# Altium integrated library WD Communication UART.IntLib: 33 symbols
Pins are listed as number, name and electrical type; pins without a type are passive.

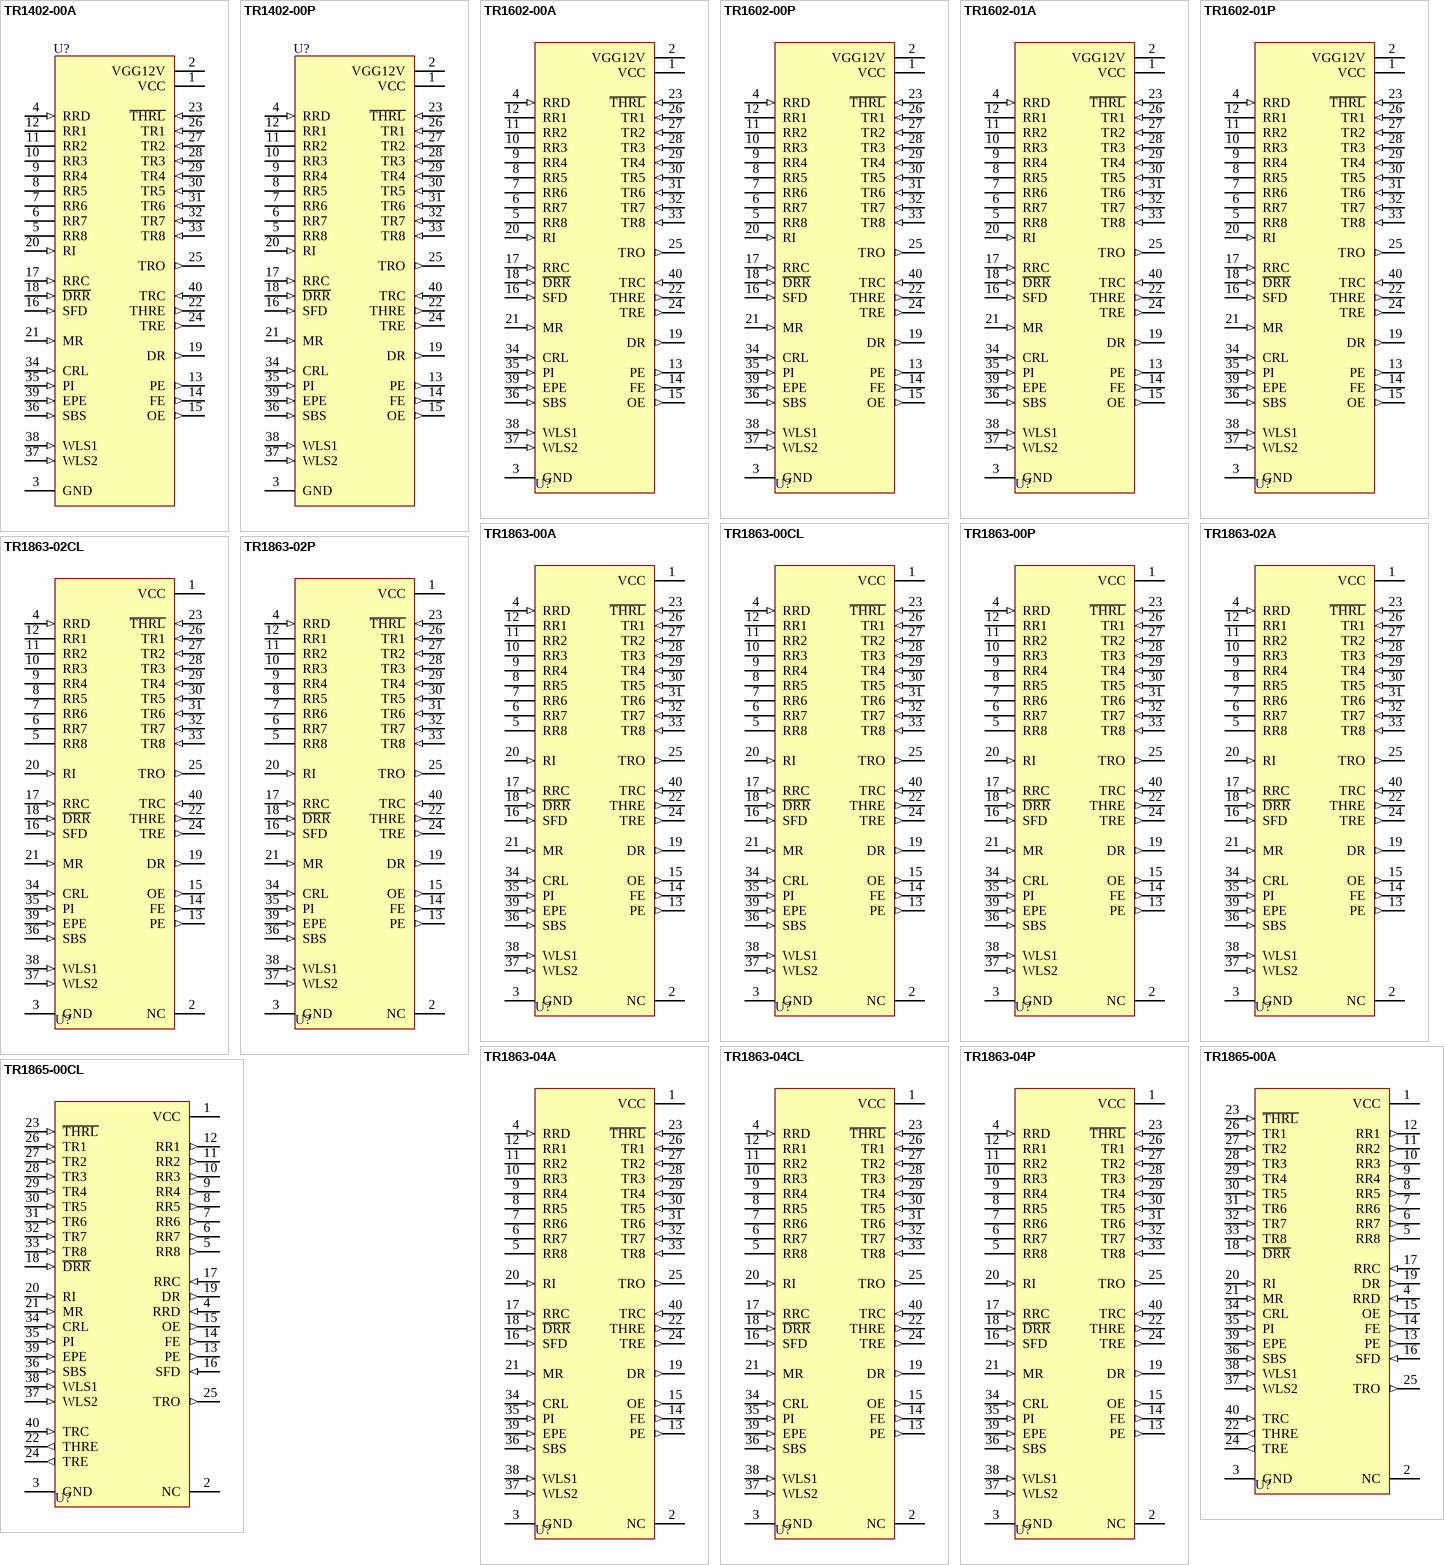
[diagram p0: symbols TR1402-00A to TR1865-00CL]

## TR1402-00A
designator U?
Universal Asynchronous Receiver/Transmitter; PackageDocument: 1984; Published: 8-Jun-2000; LatestRevisionDate: 4-Mar-2005; LatestRevisionNote: Stylized 3D Model Added.; DatasheetDocument: 1984; PackageReference: A40; Publisher: Altium Limited; ComponentLink1Description: Manufacturer Link; ComponentLink1URL: http://www.wdc.com/
footprint A40 (DIP; 40 Leads; Row Spacing 15.24 mm; Pitch 2.54 mm)
3D model A40 (DIP; 40 Leads; Row Spacing 15.24 mm; Pitch 2.54 mm)
pins: 1 VCC (power), 2 VGG12V (power), 3 GND (power), 4 RRD (in), 5 RR8 (hiz), 6 RR7 (hiz), 7 RR6 (hiz), 8 RR5 (hiz), 9 RR4 (hiz), 10 RR3 (hiz), 11 RR2 (hiz), 12 RR1 (hiz), 13 PE (out), 14 FE (out), 15 OE (out), 16 SFD (in), 17 RRC (in), 18 ~{DRR} (in), 19 DR (out), 20 RI (in), 21 MR (in), 22 THRE (out), 23 ~{THRL} (in), 24 TRE (out), 25 TRO (out), 26 TR1 (in), 27 TR2 (in), 28 TR3 (in), 29 TR4 (in), 30 TR5 (in), 31 TR6 (in), 32 TR7 (in), 33 TR8 (in), 34 CRL (in), 35 PI (in), 36 SBS (in), 37 WLS2 (in), 38 WLS1 (in), 39 EPE (in), 40 TRC (in)

## TR1402-00P
designator U?
Universal Asynchronous Receiver/Transmitter; PackageDocument: 1984; Published: 8-Jun-2000; LatestRevisionDate: 4-Mar-2005; LatestRevisionNote: Stylized 3D Model Added.; DatasheetDocument: 1984; PackageReference: P40; Publisher: Altium Limited; ComponentLink1Description: Manufacturer Link; ComponentLink1URL: http://www.wdc.com/
footprint P40 (DIP; 40 Leads; Row Spacing 15.24 mm; Pitch 2.54 mm)
3D model P40 (DIP; 40 Leads; Row Spacing 15.24 mm; Pitch 2.54 mm)
pins: 1 VCC (power), 2 VGG12V (power), 3 GND (power), 4 RRD (in), 5 RR8 (hiz), 6 RR7 (hiz), 7 RR6 (hiz), 8 RR5 (hiz), 9 RR4 (hiz), 10 RR3 (hiz), 11 RR2 (hiz), 12 RR1 (hiz), 13 PE (out), 14 FE (out), 15 OE (out), 16 SFD (in), 17 RRC (in), 18 ~{DRR} (in), 19 DR (out), 20 RI (in), 21 MR (in), 22 THRE (out), 23 ~{THRL} (in), 24 TRE (out), 25 TRO (out), 26 TR1 (in), 27 TR2 (in), 28 TR3 (in), 29 TR4 (in), 30 TR5 (in), 31 TR6 (in), 32 TR7 (in), 33 TR8 (in), 34 CRL (in), 35 PI (in), 36 SBS (in), 37 WLS2 (in), 38 WLS1 (in), 39 EPE (in), 40 TRC (in)

## TR1602-00A
designator U?
Universal Asynchronous Receiver/Transmitter; PackageDocument: 1984; Published: 8-Jun-2000; LatestRevisionDate: 4-Mar-2005; LatestRevisionNote: Stylized 3D Model Added.; DatasheetDocument: 1984; PackageReference: A40; Publisher: Altium Limited; ComponentLink1Description: Manufacturer Link; ComponentLink1URL: http://www.wdc.com/
footprint A40 (DIP; 40 Leads; Row Spacing 15.24 mm; Pitch 2.54 mm)
3D model A40 (DIP; 40 Leads; Row Spacing 15.24 mm; Pitch 2.54 mm)
pins: 1 VCC (power), 2 VGG12V (power), 3 GND (power), 4 RRD (in), 5 RR8 (hiz), 6 RR7 (hiz), 7 RR6 (hiz), 8 RR5 (hiz), 9 RR4 (hiz), 10 RR3 (hiz), 11 RR2 (hiz), 12 RR1 (hiz), 13 PE (out), 14 FE (out), 15 OE (out), 16 SFD (in), 17 RRC (in), 18 ~{DRR} (in), 19 DR (out), 20 RI (in), 21 MR (in), 22 THRE (out), 23 ~{THRL} (in), 24 TRE (out), 25 TRO (out), 26 TR1 (in), 27 TR2 (in), 28 TR3 (in), 29 TR4 (in), 30 TR5 (in), 31 TR6 (in), 32 TR7 (in), 33 TR8 (in), 34 CRL (in), 35 PI (in), 36 SBS (in), 37 WLS2 (in), 38 WLS1 (in), 39 EPE (in), 40 TRC (in)

## TR1602-00P
designator U?
Universal Asynchronous Receiver/Transmitter; PackageDocument: 1984; Published: 8-Jun-2000; LatestRevisionDate: 4-Mar-2005; LatestRevisionNote: Stylized 3D Model Added.; DatasheetDocument: 1984; PackageReference: P40; Publisher: Altium Limited; ComponentLink1Description: Manufacturer Link; ComponentLink1URL: http://www.wdc.com/
footprint P40 (DIP; 40 Leads; Row Spacing 15.24 mm; Pitch 2.54 mm)
3D model P40 (DIP; 40 Leads; Row Spacing 15.24 mm; Pitch 2.54 mm)
pins: 1 VCC (power), 2 VGG12V (power), 3 GND (power), 4 RRD (in), 5 RR8 (hiz), 6 RR7 (hiz), 7 RR6 (hiz), 8 RR5 (hiz), 9 RR4 (hiz), 10 RR3 (hiz), 11 RR2 (hiz), 12 RR1 (hiz), 13 PE (out), 14 FE (out), 15 OE (out), 16 SFD (in), 17 RRC (in), 18 ~{DRR} (in), 19 DR (out), 20 RI (in), 21 MR (in), 22 THRE (out), 23 ~{THRL} (in), 24 TRE (out), 25 TRO (out), 26 TR1 (in), 27 TR2 (in), 28 TR3 (in), 29 TR4 (in), 30 TR5 (in), 31 TR6 (in), 32 TR7 (in), 33 TR8 (in), 34 CRL (in), 35 PI (in), 36 SBS (in), 37 WLS2 (in), 38 WLS1 (in), 39 EPE (in), 40 TRC (in)

## TR1602-01A
designator U?
Universal Asynchronous Receiver/Transmitter; PackageDocument: 1984; Published: 8-Jun-2000; LatestRevisionDate: 4-Mar-2005; LatestRevisionNote: Stylized 3D Model Added.; DatasheetDocument: 1984; PackageReference: A40; Publisher: Altium Limited; ComponentLink1Description: Manufacturer Link; ComponentLink1URL: http://www.wdc.com/
footprint A40 (DIP; 40 Leads; Row Spacing 15.24 mm; Pitch 2.54 mm)
3D model A40 (DIP; 40 Leads; Row Spacing 15.24 mm; Pitch 2.54 mm)
pins: 1 VCC (power), 2 VGG12V (power), 3 GND (power), 4 RRD (in), 5 RR8 (hiz), 6 RR7 (hiz), 7 RR6 (hiz), 8 RR5 (hiz), 9 RR4 (hiz), 10 RR3 (hiz), 11 RR2 (hiz), 12 RR1 (hiz), 13 PE (out), 14 FE (out), 15 OE (out), 16 SFD (in), 17 RRC (in), 18 ~{DRR} (in), 19 DR (out), 20 RI (in), 21 MR (in), 22 THRE (out), 23 ~{THRL} (in), 24 TRE (out), 25 TRO (out), 26 TR1 (in), 27 TR2 (in), 28 TR3 (in), 29 TR4 (in), 30 TR5 (in), 31 TR6 (in), 32 TR7 (in), 33 TR8 (in), 34 CRL (in), 35 PI (in), 36 SBS (in), 37 WLS2 (in), 38 WLS1 (in), 39 EPE (in), 40 TRC (in)

## TR1602-01P
designator U?
Universal Asynchronous Receiver/Transmitter; PackageDocument: 1984; Published: 8-Jun-2000; LatestRevisionDate: 4-Mar-2005; LatestRevisionNote: Stylized 3D Model Added.; DatasheetDocument: 1984; PackageReference: P40; Publisher: Altium Limited; ComponentLink1Description: Manufacturer Link; ComponentLink1URL: http://www.wdc.com/
footprint P40 (DIP; 40 Leads; Row Spacing 15.24 mm; Pitch 2.54 mm)
3D model P40 (DIP; 40 Leads; Row Spacing 15.24 mm; Pitch 2.54 mm)
pins: 1 VCC (power), 2 VGG12V (power), 3 GND (power), 4 RRD (in), 5 RR8 (hiz), 6 RR7 (hiz), 7 RR6 (hiz), 8 RR5 (hiz), 9 RR4 (hiz), 10 RR3 (hiz), 11 RR2 (hiz), 12 RR1 (hiz), 13 PE (out), 14 FE (out), 15 OE (out), 16 SFD (in), 17 RRC (in), 18 ~{DRR} (in), 19 DR (out), 20 RI (in), 21 MR (in), 22 THRE (out), 23 ~{THRL} (in), 24 TRE (out), 25 TRO (out), 26 TR1 (in), 27 TR2 (in), 28 TR3 (in), 29 TR4 (in), 30 TR5 (in), 31 TR6 (in), 32 TR7 (in), 33 TR8 (in), 34 CRL (in), 35 PI (in), 36 SBS (in), 37 WLS2 (in), 38 WLS1 (in), 39 EPE (in), 40 TRC (in)

## TR1863-00A
designator U?
Universal Asynchronous Receiver/Transmitter; PackageDocument: 1984; Published: 8-Jun-2000; LatestRevisionDate: 4-Mar-2005; LatestRevisionNote: Stylized 3D Model Added.; DatasheetDocument: 1984; PackageReference: A40; Publisher: Altium Limited; ComponentLink1Description: Manufacturer Link; ComponentLink1URL: http://www.wdc.com/
footprint A40 (DIP; 40 Leads; Row Spacing 15.24 mm; Pitch 2.54 mm)
3D model A40 (DIP; 40 Leads; Row Spacing 15.24 mm; Pitch 2.54 mm)
pins: 1 VCC (power), 2 NC, 3 GND (power), 4 RRD (in), 5 RR8 (hiz), 6 RR7 (hiz), 7 RR6 (hiz), 8 RR5 (hiz), 9 RR4 (hiz), 10 RR3 (hiz), 11 RR2 (hiz), 12 RR1 (hiz), 13 PE (out), 14 FE (out), 15 OE (out), 16 SFD (in), 17 RRC (in), 18 ~{DRR} (in), 19 DR (out), 20 RI (in), 21 MR (in), 22 THRE (out), 23 ~{TH}~{RL} (in), 24 TRE (out), 25 TRO (out), 26 TR1 (in), 27 TR2 (in), 28 TR3 (in), 29 TR4 (in), 30 TR5 (in), 31 TR6 (in), 32 TR7 (in), 33 TR8 (in), 34 CRL (in), 35 PI (in), 36 SBS (in), 37 WLS2 (in), 38 WLS1 (in), 39 EPE (in), 40 TRC (in)

## TR1863-00CL
designator U?
Universal Asynchronous Receiver/Transmitter; PackageDocument: 1984; Published: 8-Jun-2000; LatestRevisionDate: 4-Mar-2005; LatestRevisionNote: Stylized 3D Model Added.; DatasheetDocument: 1984; PackageReference: CL40; Publisher: Altium Limited; ComponentLink1Description: Manufacturer Link; ComponentLink1URL: http://www.wdc.com/
footprint CL40 (DIP; 40 Leads; Row Spacing 15.24 mm; Pitch 2.54 mm)
3D model P40 (DIP; 40 Leads; Row Spacing 15.24 mm; Pitch 2.54 mm)
pins: 1 VCC (power), 2 NC, 3 GND (power), 4 RRD (in), 5 RR8 (hiz), 6 RR7 (hiz), 7 RR6 (hiz), 8 RR5 (hiz), 9 RR4 (hiz), 10 RR3 (hiz), 11 RR2 (hiz), 12 RR1 (hiz), 13 PE (out), 14 FE (out), 15 OE (out), 16 SFD (in), 17 RRC (in), 18 ~{DRR} (in), 19 DR (out), 20 RI (in), 21 MR (in), 22 THRE (out), 23 ~{TH}~{RL} (in), 24 TRE (out), 25 TRO (out), 26 TR1 (in), 27 TR2 (in), 28 TR3 (in), 29 TR4 (in), 30 TR5 (in), 31 TR6 (in), 32 TR7 (in), 33 TR8 (in), 34 CRL (in), 35 PI (in), 36 SBS (in), 37 WLS2 (in), 38 WLS1 (in), 39 EPE (in), 40 TRC (in)

## TR1863-00P
designator U?
Universal Asynchronous Receiver/Transmitter; PackageDocument: 1984; Published: 8-Jun-2000; LatestRevisionDate: 4-Mar-2005; LatestRevisionNote: Stylized 3D Model Added.; DatasheetDocument: 1984; PackageReference: P40; Publisher: Altium Limited; ComponentLink1Description: Manufacturer Link; ComponentLink1URL: http://www.wdc.com/
footprint P40 (DIP; 40 Leads; Row Spacing 15.24 mm; Pitch 2.54 mm)
3D model P40 (DIP; 40 Leads; Row Spacing 15.24 mm; Pitch 2.54 mm)
pins: 1 VCC (power), 2 NC, 3 GND (power), 4 RRD (in), 5 RR8 (hiz), 6 RR7 (hiz), 7 RR6 (hiz), 8 RR5 (hiz), 9 RR4 (hiz), 10 RR3 (hiz), 11 RR2 (hiz), 12 RR1 (hiz), 13 PE (out), 14 FE (out), 15 OE (out), 16 SFD (in), 17 RRC (in), 18 ~{DRR} (in), 19 DR (out), 20 RI (in), 21 MR (in), 22 THRE (out), 23 ~{TH}~{RL} (in), 24 TRE (out), 25 TRO (out), 26 TR1 (in), 27 TR2 (in), 28 TR3 (in), 29 TR4 (in), 30 TR5 (in), 31 TR6 (in), 32 TR7 (in), 33 TR8 (in), 34 CRL (in), 35 PI (in), 36 SBS (in), 37 WLS2 (in), 38 WLS1 (in), 39 EPE (in), 40 TRC (in)

## TR1863-02A
designator U?
Universal Asynchronous Receiver/Transmitter; PackageDocument: 1984; Published: 8-Jun-2000; LatestRevisionDate: 4-Mar-2005; LatestRevisionNote: Stylized 3D Model Added.; DatasheetDocument: 1984; PackageReference: A40; Publisher: Altium Limited; ComponentLink1Description: Manufacturer Link; ComponentLink1URL: http://www.wdc.com/
footprint A40 (DIP; 40 Leads; Row Spacing 15.24 mm; Pitch 2.54 mm)
3D model A40 (DIP; 40 Leads; Row Spacing 15.24 mm; Pitch 2.54 mm)
pins: 1 VCC (power), 2 NC, 3 GND (power), 4 RRD (in), 5 RR8 (hiz), 6 RR7 (hiz), 7 RR6 (hiz), 8 RR5 (hiz), 9 RR4 (hiz), 10 RR3 (hiz), 11 RR2 (hiz), 12 RR1 (hiz), 13 PE (out), 14 FE (out), 15 OE (out), 16 SFD (in), 17 RRC (in), 18 ~{DRR} (in), 19 DR (out), 20 RI (in), 21 MR (in), 22 THRE (out), 23 ~{TH}~{RL} (in), 24 TRE (out), 25 TRO (out), 26 TR1 (in), 27 TR2 (in), 28 TR3 (in), 29 TR4 (in), 30 TR5 (in), 31 TR6 (in), 32 TR7 (in), 33 TR8 (in), 34 CRL (in), 35 PI (in), 36 SBS (in), 37 WLS2 (in), 38 WLS1 (in), 39 EPE (in), 40 TRC (in)

## TR1863-02CL
designator U?
Universal Asynchronous Receiver/Transmitter; PackageDocument: 1984; Published: 8-Jun-2000; LatestRevisionDate: 4-Mar-2005; LatestRevisionNote: Stylized 3D Model Added.; DatasheetDocument: 1984; PackageReference: CL40; Publisher: Altium Limited; ComponentLink1Description: Manufacturer Link; ComponentLink1URL: http://www.wdc.com/
footprint CL40 (DIP; 40 Leads; Row Spacing 15.24 mm; Pitch 2.54 mm)
3D model P40 (DIP; 40 Leads; Row Spacing 15.24 mm; Pitch 2.54 mm)
pins: 1 VCC (power), 2 NC, 3 GND (power), 4 RRD (in), 5 RR8 (hiz), 6 RR7 (hiz), 7 RR6 (hiz), 8 RR5 (hiz), 9 RR4 (hiz), 10 RR3 (hiz), 11 RR2 (hiz), 12 RR1 (hiz), 13 PE (out), 14 FE (out), 15 OE (out), 16 SFD (in), 17 RRC (in), 18 ~{DRR} (in), 19 DR (out), 20 RI (in), 21 MR (in), 22 THRE (out), 23 ~{TH}~{RL} (in), 24 TRE (out), 25 TRO (out), 26 TR1 (in), 27 TR2 (in), 28 TR3 (in), 29 TR4 (in), 30 TR5 (in), 31 TR6 (in), 32 TR7 (in), 33 TR8 (in), 34 CRL (in), 35 PI (in), 36 SBS (in), 37 WLS2 (in), 38 WLS1 (in), 39 EPE (in), 40 TRC (in)

## TR1863-02P
designator U?
Universal Asynchronous Receiver/Transmitter; PackageDocument: 1984; Published: 8-Jun-2000; LatestRevisionDate: 4-Mar-2005; LatestRevisionNote: Stylized 3D Model Added.; DatasheetDocument: 1984; PackageReference: P40; Publisher: Altium Limited; ComponentLink1Description: Manufacturer Link; ComponentLink1URL: http://www.wdc.com/
footprint P40 (DIP; 40 Leads; Row Spacing 15.24 mm; Pitch 2.54 mm)
3D model P40 (DIP; 40 Leads; Row Spacing 15.24 mm; Pitch 2.54 mm)
pins: 1 VCC (power), 2 NC, 3 GND (power), 4 RRD (in), 5 RR8 (hiz), 6 RR7 (hiz), 7 RR6 (hiz), 8 RR5 (hiz), 9 RR4 (hiz), 10 RR3 (hiz), 11 RR2 (hiz), 12 RR1 (hiz), 13 PE (out), 14 FE (out), 15 OE (out), 16 SFD (in), 17 RRC (in), 18 ~{DRR} (in), 19 DR (out), 20 RI (in), 21 MR (in), 22 THRE (out), 23 ~{TH}~{RL} (in), 24 TRE (out), 25 TRO (out), 26 TR1 (in), 27 TR2 (in), 28 TR3 (in), 29 TR4 (in), 30 TR5 (in), 31 TR6 (in), 32 TR7 (in), 33 TR8 (in), 34 CRL (in), 35 PI (in), 36 SBS (in), 37 WLS2 (in), 38 WLS1 (in), 39 EPE (in), 40 TRC (in)

## TR1863-04A
designator U?
Universal Asynchronous Receiver/Transmitter; PackageDocument: 1984; Published: 8-Jun-2000; LatestRevisionDate: 4-Mar-2005; LatestRevisionNote: Stylized 3D Model Added.; DatasheetDocument: 1984; PackageReference: A40; Publisher: Altium Limited; ComponentLink1Description: Manufacturer Link; ComponentLink1URL: http://www.wdc.com/
footprint A40 (DIP; 40 Leads; Row Spacing 15.24 mm; Pitch 2.54 mm)
3D model A40 (DIP; 40 Leads; Row Spacing 15.24 mm; Pitch 2.54 mm)
pins: 1 VCC (power), 2 NC, 3 GND (power), 4 RRD (in), 5 RR8 (hiz), 6 RR7 (hiz), 7 RR6 (hiz), 8 RR5 (hiz), 9 RR4 (hiz), 10 RR3 (hiz), 11 RR2 (hiz), 12 RR1 (hiz), 13 PE (out), 14 FE (out), 15 OE (out), 16 SFD (in), 17 RRC (in), 18 ~{DRR} (in), 19 DR (out), 20 RI (in), 21 MR (in), 22 THRE (out), 23 ~{TH}~{RL} (in), 24 TRE (out), 25 TRO (out), 26 TR1 (in), 27 TR2 (in), 28 TR3 (in), 29 TR4 (in), 30 TR5 (in), 31 TR6 (in), 32 TR7 (in), 33 TR8 (in), 34 CRL (in), 35 PI (in), 36 SBS (in), 37 WLS2 (in), 38 WLS1 (in), 39 EPE (in), 40 TRC (in)

## TR1863-04CL
designator U?
Universal Asynchronous Receiver/Transmitter; PackageDocument: 1984; Published: 8-Jun-2000; LatestRevisionDate: 4-Mar-2005; LatestRevisionNote: Stylized 3D Model Added.; DatasheetDocument: 1984; PackageReference: CL40; Publisher: Altium Limited; ComponentLink1Description: Manufacturer Link; ComponentLink1URL: http://www.wdc.com/
footprint CL40 (DIP; 40 Leads; Row Spacing 15.24 mm; Pitch 2.54 mm)
3D model P40 (DIP; 40 Leads; Row Spacing 15.24 mm; Pitch 2.54 mm)
pins: 1 VCC (power), 2 NC, 3 GND (power), 4 RRD (in), 5 RR8 (hiz), 6 RR7 (hiz), 7 RR6 (hiz), 8 RR5 (hiz), 9 RR4 (hiz), 10 RR3 (hiz), 11 RR2 (hiz), 12 RR1 (hiz), 13 PE (out), 14 FE (out), 15 OE (out), 16 SFD (in), 17 RRC (in), 18 ~{DRR} (in), 19 DR (out), 20 RI (in), 21 MR (in), 22 THRE (out), 23 ~{TH}~{RL} (in), 24 TRE (out), 25 TRO (out), 26 TR1 (in), 27 TR2 (in), 28 TR3 (in), 29 TR4 (in), 30 TR5 (in), 31 TR6 (in), 32 TR7 (in), 33 TR8 (in), 34 CRL (in), 35 PI (in), 36 SBS (in), 37 WLS2 (in), 38 WLS1 (in), 39 EPE (in), 40 TRC (in)

## TR1863-04P
designator U?
Universal Asynchronous Receiver/Transmitter; PackageDocument: 1984; Published: 8-Jun-2000; LatestRevisionDate: 4-Mar-2005; LatestRevisionNote: Stylized 3D Model Added.; DatasheetDocument: 1984; PackageReference: P40; Publisher: Altium Limited; ComponentLink1Description: Manufacturer Link; ComponentLink1URL: http://www.wdc.com/
footprint P40 (DIP; 40 Leads; Row Spacing 15.24 mm; Pitch 2.54 mm)
3D model P40 (DIP; 40 Leads; Row Spacing 15.24 mm; Pitch 2.54 mm)
pins: 1 VCC (power), 2 NC, 3 GND (power), 4 RRD (in), 5 RR8 (hiz), 6 RR7 (hiz), 7 RR6 (hiz), 8 RR5 (hiz), 9 RR4 (hiz), 10 RR3 (hiz), 11 RR2 (hiz), 12 RR1 (hiz), 13 PE (out), 14 FE (out), 15 OE (out), 16 SFD (in), 17 RRC (in), 18 ~{DRR} (in), 19 DR (out), 20 RI (in), 21 MR (in), 22 THRE (out), 23 ~{TH}~{RL} (in), 24 TRE (out), 25 TRO (out), 26 TR1 (in), 27 TR2 (in), 28 TR3 (in), 29 TR4 (in), 30 TR5 (in), 31 TR6 (in), 32 TR7 (in), 33 TR8 (in), 34 CRL (in), 35 PI (in), 36 SBS (in), 37 WLS2 (in), 38 WLS1 (in), 39 EPE (in), 40 TRC (in)

## TR1865-00A
designator U?
Universal Asynchronous Receiver/Transmitter; PackageDocument: 1984; Published: 8-Jun-2000; LatestRevisionDate: 4-Mar-2005; LatestRevisionNote: Stylized 3D Model Added.; DatasheetDocument: 1984; PackageReference: A40; Publisher: Altium Limited; ComponentLink1Description: Manufacturer Link; ComponentLink1URL: http://www.wdc.com/
footprint A40 (DIP; 40 Leads; Row Spacing 15.24 mm; Pitch 2.54 mm)
3D model A40 (DIP; 40 Leads; Row Spacing 15.24 mm; Pitch 2.54 mm)
pins: 1 VCC (power), 2 NC, 3 GND (power), 4 RRD (in), 5 RR8 (out), 6 RR7 (out), 7 RR6 (out), 8 RR5 (out), 9 RR4 (out), 10 RR3 (out), 11 RR2 (out), 12 RR1 (out), 13 PE (out), 14 FE (out), 15 OE (out), 16 SFD (in), 17 RRC (in), 18 ~{DRR} (in), 19 DR (out), 20 RI (in), 21 MR (in), 22 THRE (out), 23 ~{THRL} (in), 24 TRE (out), 25 TRO (out), 26 TR1 (in), 27 TR2 (in), 28 TR3 (in), 29 TR4 (in), 30 TR5 (in), 31 TR6 (in), 32 TR7 (in), 33 TR8 (in), 34 CRL (in), 35 PI (in), 36 SBS (in), 37 WLS2 (in), 38 WLS1 (in), 39 EPE (in), 40 TRC (in)

## TR1865-00CL
designator U?
Universal Asynchronous Receiver/Transmitter; PackageDocument: 1984; Published: 8-Jun-2000; LatestRevisionDate: 4-Mar-2005; LatestRevisionNote: Stylized 3D Model Added.; DatasheetDocument: 1984; PackageReference: CL40; Publisher: Altium Limited; ComponentLink1Description: Manufacturer Link; ComponentLink1URL: http://www.wdc.com/
footprint CL40 (DIP; 40 Leads; Row Spacing 15.24 mm; Pitch 2.54 mm)
3D model P40 (DIP; 40 Leads; Row Spacing 15.24 mm; Pitch 2.54 mm)
pins: 1 VCC (power), 2 NC, 3 GND (power), 4 RRD (in), 5 RR8 (out), 6 RR7 (out), 7 RR6 (out), 8 RR5 (out), 9 RR4 (out), 10 RR3 (out), 11 RR2 (out), 12 RR1 (out), 13 PE (out), 14 FE (out), 15 OE (out), 16 SFD (in), 17 RRC (in), 18 ~{DRR} (in), 19 DR (out), 20 RI (in), 21 MR (in), 22 THRE (out), 23 ~{THRL} (in), 24 TRE (out), 25 TRO (out), 26 TR1 (in), 27 TR2 (in), 28 TR3 (in), 29 TR4 (in), 30 TR5 (in), 31 TR6 (in), 32 TR7 (in), 33 TR8 (in), 34 CRL (in), 35 PI (in), 36 SBS (in), 37 WLS2 (in), 38 WLS1 (in), 39 EPE (in), 40 TRC (in)

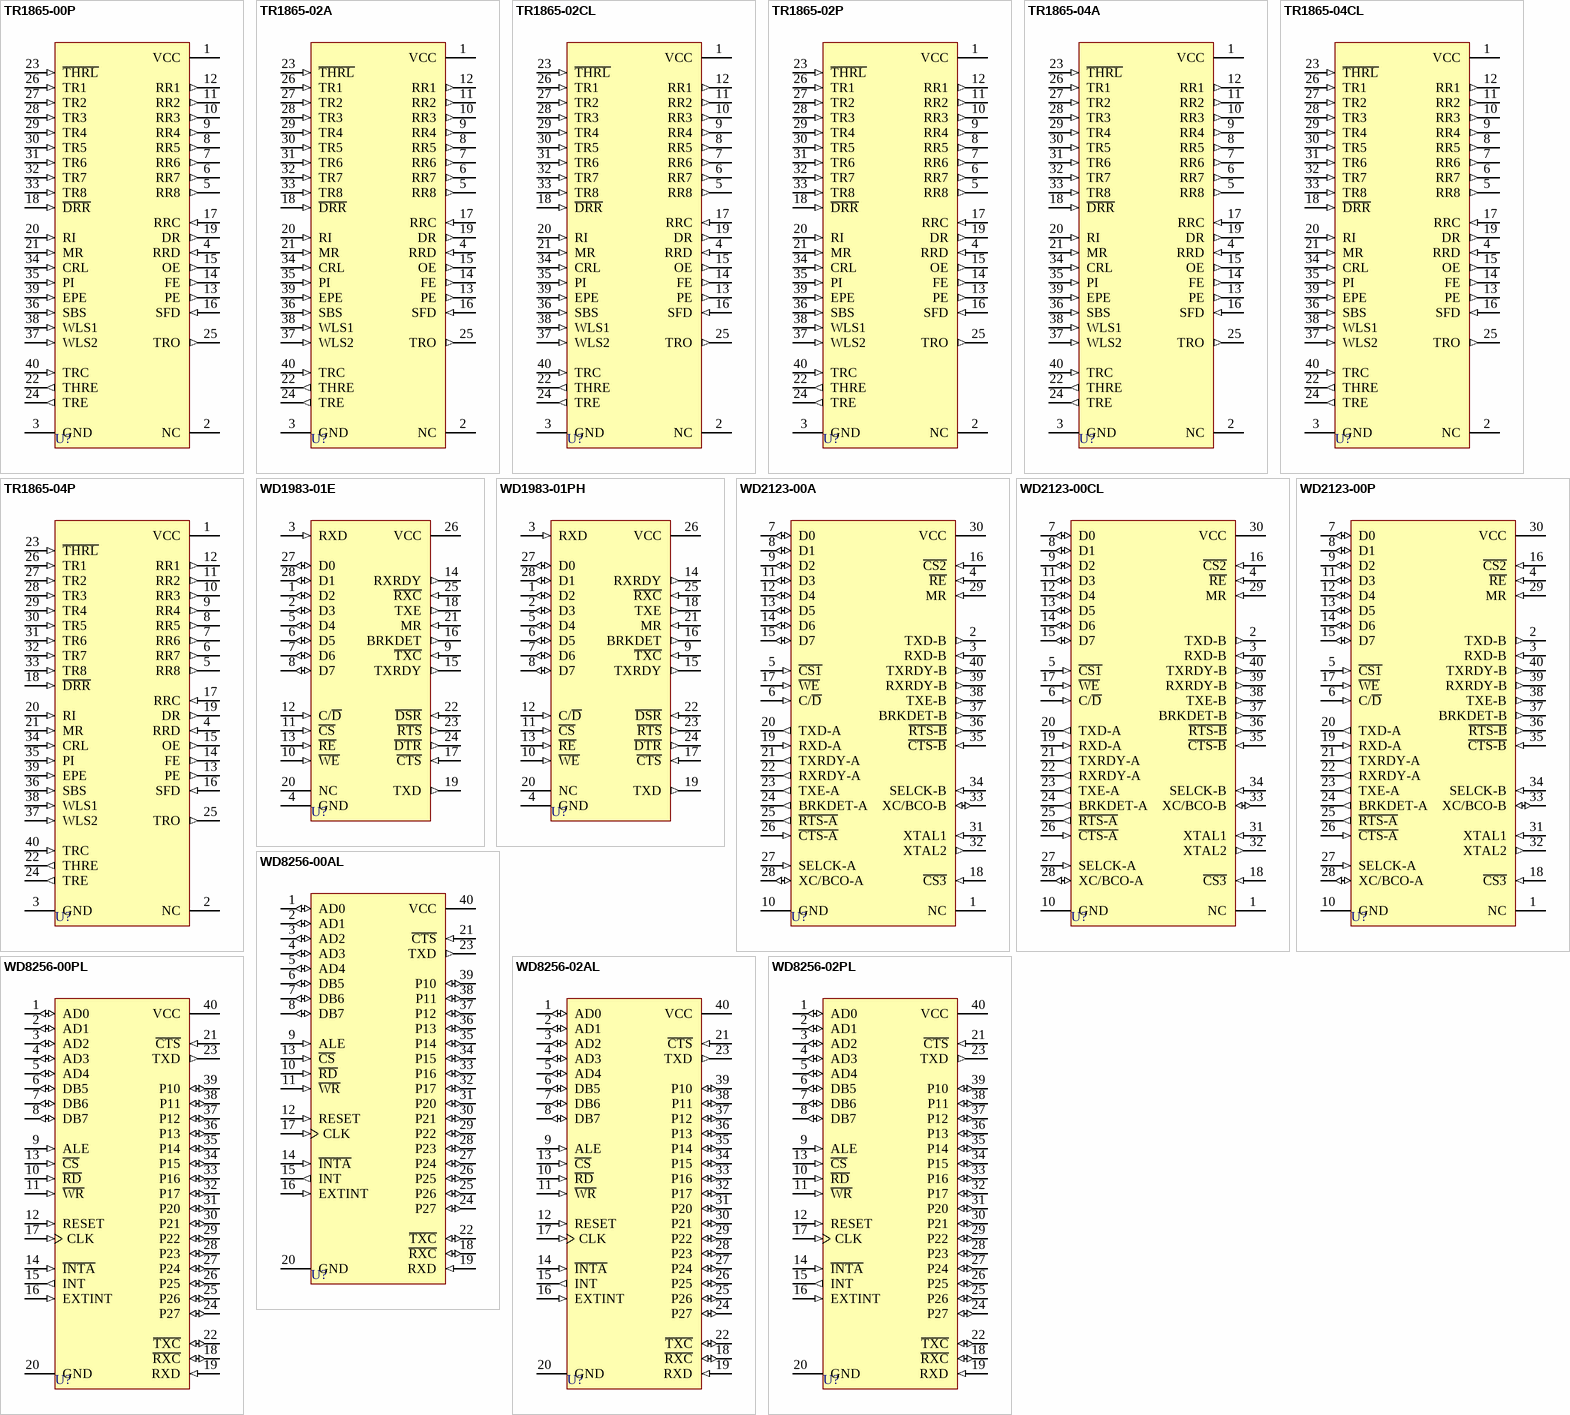
[diagram p1: symbols TR1865-00P to WD8256-02PL]

## TR1865-00P
designator U?
Universal Asynchronous Receiver/Transmitter; PackageDocument: 1984; Published: 8-Jun-2000; LatestRevisionDate: 4-Mar-2005; LatestRevisionNote: Stylized 3D Model Added.; DatasheetDocument: 1984; PackageReference: P40; Publisher: Altium Limited; ComponentLink1Description: Manufacturer Link; ComponentLink1URL: http://www.wdc.com/
footprint P40 (DIP; 40 Leads; Row Spacing 15.24 mm; Pitch 2.54 mm)
3D model P40 (DIP; 40 Leads; Row Spacing 15.24 mm; Pitch 2.54 mm)
pins: 1 VCC (power), 2 NC, 3 GND (power), 4 RRD (in), 5 RR8 (out), 6 RR7 (out), 7 RR6 (out), 8 RR5 (out), 9 RR4 (out), 10 RR3 (out), 11 RR2 (out), 12 RR1 (out), 13 PE (out), 14 FE (out), 15 OE (out), 16 SFD (in), 17 RRC (in), 18 ~{DRR} (in), 19 DR (out), 20 RI (in), 21 MR (in), 22 THRE (out), 23 ~{THRL} (in), 24 TRE (out), 25 TRO (out), 26 TR1 (in), 27 TR2 (in), 28 TR3 (in), 29 TR4 (in), 30 TR5 (in), 31 TR6 (in), 32 TR7 (in), 33 TR8 (in), 34 CRL (in), 35 PI (in), 36 SBS (in), 37 WLS2 (in), 38 WLS1 (in), 39 EPE (in), 40 TRC (in)

## TR1865-02A
designator U?
Universal Asynchronous Receiver/Transmitter; PackageDocument: 1984; Published: 8-Jun-2000; LatestRevisionDate: 4-Mar-2005; LatestRevisionNote: Stylized 3D Model Added.; DatasheetDocument: 1984; PackageReference: A40; Publisher: Altium Limited; ComponentLink1Description: Manufacturer Link; ComponentLink1URL: http://www.wdc.com/
footprint A40 (DIP; 40 Leads; Row Spacing 15.24 mm; Pitch 2.54 mm)
3D model A40 (DIP; 40 Leads; Row Spacing 15.24 mm; Pitch 2.54 mm)
pins: 1 VCC (power), 2 NC, 3 GND (power), 4 RRD (in), 5 RR8 (out), 6 RR7 (out), 7 RR6 (out), 8 RR5 (out), 9 RR4 (out), 10 RR3 (out), 11 RR2 (out), 12 RR1 (out), 13 PE (out), 14 FE (out), 15 OE (out), 16 SFD (in), 17 RRC (in), 18 ~{DRR} (in), 19 DR (out), 20 RI (in), 21 MR (in), 22 THRE (out), 23 ~{THRL} (in), 24 TRE (out), 25 TRO (out), 26 TR1 (in), 27 TR2 (in), 28 TR3 (in), 29 TR4 (in), 30 TR5 (in), 31 TR6 (in), 32 TR7 (in), 33 TR8 (in), 34 CRL (in), 35 PI (in), 36 SBS (in), 37 WLS2 (in), 38 WLS1 (in), 39 EPE (in), 40 TRC (in)

## TR1865-02CL
designator U?
Universal Asynchronous Receiver/Transmitter; PackageDocument: 1984; Published: 8-Jun-2000; LatestRevisionDate: 4-Mar-2005; LatestRevisionNote: Stylized 3D Model Added.; DatasheetDocument: 1984; PackageReference: CL40; Publisher: Altium Limited; ComponentLink1Description: Manufacturer Link; ComponentLink1URL: http://www.wdc.com/
footprint CL40 (DIP; 40 Leads; Row Spacing 15.24 mm; Pitch 2.54 mm)
3D model P40 (DIP; 40 Leads; Row Spacing 15.24 mm; Pitch 2.54 mm)
pins: 1 VCC (power), 2 NC, 3 GND (power), 4 RRD (in), 5 RR8 (out), 6 RR7 (out), 7 RR6 (out), 8 RR5 (out), 9 RR4 (out), 10 RR3 (out), 11 RR2 (out), 12 RR1 (out), 13 PE (out), 14 FE (out), 15 OE (out), 16 SFD (in), 17 RRC (in), 18 ~{DRR} (in), 19 DR (out), 20 RI (in), 21 MR (in), 22 THRE (out), 23 ~{THRL} (in), 24 TRE (out), 25 TRO (out), 26 TR1 (in), 27 TR2 (in), 28 TR3 (in), 29 TR4 (in), 30 TR5 (in), 31 TR6 (in), 32 TR7 (in), 33 TR8 (in), 34 CRL (in), 35 PI (in), 36 SBS (in), 37 WLS2 (in), 38 WLS1 (in), 39 EPE (in), 40 TRC (in)

## TR1865-02P
designator U?
Universal Asynchronous Receiver/Transmitter; PackageDocument: 1984; Published: 8-Jun-2000; LatestRevisionDate: 4-Mar-2005; LatestRevisionNote: Stylized 3D Model Added.; DatasheetDocument: 1984; PackageReference: P40; Publisher: Altium Limited; ComponentLink1Description: Manufacturer Link; ComponentLink1URL: http://www.wdc.com/
footprint P40 (DIP; 40 Leads; Row Spacing 15.24 mm; Pitch 2.54 mm)
3D model P40 (DIP; 40 Leads; Row Spacing 15.24 mm; Pitch 2.54 mm)
pins: 1 VCC (power), 2 NC, 3 GND (power), 4 RRD (in), 5 RR8 (out), 6 RR7 (out), 7 RR6 (out), 8 RR5 (out), 9 RR4 (out), 10 RR3 (out), 11 RR2 (out), 12 RR1 (out), 13 PE (out), 14 FE (out), 15 OE (out), 16 SFD (in), 17 RRC (in), 18 ~{DRR} (in), 19 DR (out), 20 RI (in), 21 MR (in), 22 THRE (out), 23 ~{THRL} (in), 24 TRE (out), 25 TRO (out), 26 TR1 (in), 27 TR2 (in), 28 TR3 (in), 29 TR4 (in), 30 TR5 (in), 31 TR6 (in), 32 TR7 (in), 33 TR8 (in), 34 CRL (in), 35 PI (in), 36 SBS (in), 37 WLS2 (in), 38 WLS1 (in), 39 EPE (in), 40 TRC (in)

## TR1865-04A
designator U?
Universal Asynchronous Receiver/Transmitter; PackageDocument: 1984; Published: 8-Jun-2000; LatestRevisionDate: 4-Mar-2005; LatestRevisionNote: Stylized 3D Model Added.; DatasheetDocument: 1984; PackageReference: A40; Publisher: Altium Limited; ComponentLink1Description: Manufacturer Link; ComponentLink1URL: http://www.wdc.com/
footprint A40 (DIP; 40 Leads; Row Spacing 15.24 mm; Pitch 2.54 mm)
3D model A40 (DIP; 40 Leads; Row Spacing 15.24 mm; Pitch 2.54 mm)
pins: 1 VCC (power), 2 NC, 3 GND (power), 4 RRD (in), 5 RR8 (out), 6 RR7 (out), 7 RR6 (out), 8 RR5 (out), 9 RR4 (out), 10 RR3 (out), 11 RR2 (out), 12 RR1 (out), 13 PE (out), 14 FE (out), 15 OE (out), 16 SFD (in), 17 RRC (in), 18 ~{DRR} (in), 19 DR (out), 20 RI (in), 21 MR (in), 22 THRE (out), 23 ~{THRL} (in), 24 TRE (out), 25 TRO (out), 26 TR1 (in), 27 TR2 (in), 28 TR3 (in), 29 TR4 (in), 30 TR5 (in), 31 TR6 (in), 32 TR7 (in), 33 TR8 (in), 34 CRL (in), 35 PI (in), 36 SBS (in), 37 WLS2 (in), 38 WLS1 (in), 39 EPE (in), 40 TRC (in)

## TR1865-04CL
designator U?
Universal Asynchronous Receiver/Transmitter; PackageDocument: 1984; Published: 8-Jun-2000; LatestRevisionDate: 4-Mar-2005; LatestRevisionNote: Stylized 3D Model Added.; DatasheetDocument: 1984; PackageReference: CL40; Publisher: Altium Limited; ComponentLink1Description: Manufacturer Link; ComponentLink1URL: http://www.wdc.com/
footprint CL40 (DIP; 40 Leads; Row Spacing 15.24 mm; Pitch 2.54 mm)
3D model P40 (DIP; 40 Leads; Row Spacing 15.24 mm; Pitch 2.54 mm)
pins: 1 VCC (power), 2 NC, 3 GND (power), 4 RRD (in), 5 RR8 (out), 6 RR7 (out), 7 RR6 (out), 8 RR5 (out), 9 RR4 (out), 10 RR3 (out), 11 RR2 (out), 12 RR1 (out), 13 PE (out), 14 FE (out), 15 OE (out), 16 SFD (in), 17 RRC (in), 18 ~{DRR} (in), 19 DR (out), 20 RI (in), 21 MR (in), 22 THRE (out), 23 ~{THRL} (in), 24 TRE (out), 25 TRO (out), 26 TR1 (in), 27 TR2 (in), 28 TR3 (in), 29 TR4 (in), 30 TR5 (in), 31 TR6 (in), 32 TR7 (in), 33 TR8 (in), 34 CRL (in), 35 PI (in), 36 SBS (in), 37 WLS2 (in), 38 WLS1 (in), 39 EPE (in), 40 TRC (in)

## TR1865-04P
designator U?
Universal Asynchronous Receiver/Transmitter; PackageDocument: 1984; Published: 8-Jun-2000; LatestRevisionDate: 4-Mar-2005; LatestRevisionNote: Stylized 3D Model Added.; DatasheetDocument: 1984; PackageReference: P40; Publisher: Altium Limited; ComponentLink1Description: Manufacturer Link; ComponentLink1URL: http://www.wdc.com/
footprint P40 (DIP; 40 Leads; Row Spacing 15.24 mm; Pitch 2.54 mm)
3D model P40 (DIP; 40 Leads; Row Spacing 15.24 mm; Pitch 2.54 mm)
pins: 1 VCC (power), 2 NC, 3 GND (power), 4 RRD (in), 5 RR8 (out), 6 RR7 (out), 7 RR6 (out), 8 RR5 (out), 9 RR4 (out), 10 RR3 (out), 11 RR2 (out), 12 RR1 (out), 13 PE (out), 14 FE (out), 15 OE (out), 16 SFD (in), 17 RRC (in), 18 ~{DRR} (in), 19 DR (out), 20 RI (in), 21 MR (in), 22 THRE (out), 23 ~{THRL} (in), 24 TRE (out), 25 TRO (out), 26 TR1 (in), 27 TR2 (in), 28 TR3 (in), 29 TR4 (in), 30 TR5 (in), 31 TR6 (in), 32 TR7 (in), 33 TR8 (in), 34 CRL (in), 35 PI (in), 36 SBS (in), 37 WLS2 (in), 38 WLS1 (in), 39 EPE (in), 40 TRC (in)

## WD1983-01E
designator U?
Bus Oriented Asynchronous Receiver/Transmitter; PackageDocument: 1984; Published: 8-Jun-2000; LatestRevisionDate: 4-Mar-2005; LatestRevisionNote: Stylized 3D Model Added.; DatasheetDocument: 1984; PackageReference: E28; Publisher: Altium Limited; ComponentLink1Description: Manufacturer Link; ComponentLink1URL: http://www.wdc.com/
footprint E28 (DIP; 28 Leads; Row Spacing 15.24 mm; Pitch 2.54 mm)
3D model E28 (DIP; 28 Leads; Row Spacing 15.24 mm; Pitch 2.54 mm)
pins: 1 D2 (io), 2 D3 (io), 3 RXD (in), 4 GND (power), 5 D4 (io), 6 D5 (io), 7 D6 (io), 8 D7 (io), 9 ~{TXC} (in), 10 ~{WE} (in), 11 ~{CS} (in), 12 C/~{D} (in), 13 ~{RE} (in), 14 RXRDY (out), 15 TXRDY (out), 16 BRKDET (out), 17 ~{CTS} (in), 18 TXE (out), 19 TXD (out), 20 NC, 21 MR (in), 22 ~{DSR} (in), 23 ~{RTS} (out), 24 ~{DTR} (out), 25 ~{RXC} (in), 26 VCC (power), 27 D0 (io), 28 D1 (io)

## WD1983-01PH
designator U?
Bus Oriented Asynchronous Receiver/Transmitter; PackageDocument: 1984; Published: 8-Jun-2000; LatestRevisionDate: 4-Mar-2005; LatestRevisionNote: Stylized 3D Model Added.; DatasheetDocument: 1984; PackageReference: PH28; Publisher: Altium Limited; ComponentLink1Description: Manufacturer Link; ComponentLink1URL: http://www.wdc.com/
footprint PH28 (DIP; 28 Leads; Row Spacing 15.24 mm; Pitch 2.54 mm)
3D model PH28 (DIP; 28 Leads; Row Spacing 15.24 mm; Pitch 2.54 mm)
pins: 1 D2 (io), 2 D3 (io), 3 RXD (in), 4 GND (power), 5 D4 (io), 6 D5 (io), 7 D6 (io), 8 D7 (io), 9 ~{TXC} (in), 10 ~{WE} (in), 11 ~{CS} (in), 12 C/~{D} (in), 13 ~{RE} (in), 14 RXRDY (out), 15 TXRDY (out), 16 BRKDET (out), 17 ~{CTS} (in), 18 TXE (out), 19 TXD (out), 20 NC, 21 MR (in), 22 ~{DSR} (in), 23 ~{RTS} (out), 24 ~{DTR} (out), 25 ~{RXC} (in), 26 VCC (power), 27 D0 (io), 28 D1 (io)

## WD2123-00A
designator U?
Dual Enhanced Universal Communication Element; PackageDocument: 1984; Published: 8-Jun-2000; LatestRevisionDate: 4-Mar-2005; LatestRevisionNote: Stylized 3D Model Added.; DatasheetDocument: 1984; PackageReference: A40; Publisher: Altium Limited; ComponentLink1Description: Manufacturer Link; ComponentLink1URL: http://www.wdc.com/
footprint A40 (DIP; 40 Leads; Row Spacing 15.24 mm; Pitch 2.54 mm)
3D model A40 (DIP; 40 Leads; Row Spacing 15.24 mm; Pitch 2.54 mm)
pins: 1 NC, 2 TXD-B (out), 3 RXD-B (in), 4 ~{RE} (in), 5 ~{CS1} (in), 6 C/~{D} (in), 7 D0 (io), 8 D1 (io), 9 D2 (io), 10 GND (power), 11 D3 (io), 12 D4 (io), 13 D5 (io), 14 D6 (io), 15 D7 (io), 16 ~{CS2} (in), 17 ~{WE} (in), 18 ~{CS3} (in), 19 RXD-A (in), 20 TXD-A (out), 21 TXRDY-A (out), 22 RXRDY-A (out), 23 TXE-A (out), 24 BRKDET-A (out), 25 ~{RTS-A} (out), 26 ~{CTS-A} (in), 27 SELCK-A (in), 28 XC/BCO-A (io), 29 MR (in), 30 VCC (power), 31 XTAL1 (in), 32 XTAL2 (out), 33 XC/BCO-B (io), 34 SELCK-B (in), 35 ~{CTS-B} (in), 36 ~{RTS-B} (out), 37 BRKDET-B (out), 38 TXE-B (out), 39 RXRDY-B (out), 40 TXRDY-B (out)

## WD2123-00CL
designator U?
Dual Enhanced Universal Communication Element; PackageDocument: 1984; Published: 8-Jun-2000; LatestRevisionDate: 4-Mar-2005; LatestRevisionNote: Stylized 3D Model Added.; DatasheetDocument: 1984; PackageReference: CL40; Publisher: Altium Limited; ComponentLink1Description: Manufacturer Link; ComponentLink1URL: http://www.wdc.com/
footprint CL40 (DIP; 40 Leads; Row Spacing 15.24 mm; Pitch 2.54 mm)
3D model P40 (DIP; 40 Leads; Row Spacing 15.24 mm; Pitch 2.54 mm)
pins: 1 NC, 2 TXD-B (out), 3 RXD-B (in), 4 ~{RE} (in), 5 ~{CS1} (in), 6 C/~{D} (in), 7 D0 (io), 8 D1 (io), 9 D2 (io), 10 GND (power), 11 D3 (io), 12 D4 (io), 13 D5 (io), 14 D6 (io), 15 D7 (io), 16 ~{CS2} (in), 17 ~{WE} (in), 18 ~{CS3} (in), 19 RXD-A (in), 20 TXD-A (out), 21 TXRDY-A (out), 22 RXRDY-A (out), 23 TXE-A (out), 24 BRKDET-A (out), 25 ~{RTS-A} (out), 26 ~{CTS-A} (in), 27 SELCK-A (in), 28 XC/BCO-A (io), 29 MR (in), 30 VCC (power), 31 XTAL1 (in), 32 XTAL2 (out), 33 XC/BCO-B (io), 34 SELCK-B (in), 35 ~{CTS-B} (in), 36 ~{RTS-B} (out), 37 BRKDET-B (out), 38 TXE-B (out), 39 RXRDY-B (out), 40 TXRDY-B (out)

## WD2123-00P
designator U?
Dual Enhanced Universal Communication Element; PackageDocument: 1984; Published: 8-Jun-2000; LatestRevisionDate: 4-Mar-2005; LatestRevisionNote: Stylized 3D Model Added.; DatasheetDocument: 1984; PackageReference: P40; Publisher: Altium Limited; ComponentLink1Description: Manufacturer Link; ComponentLink1URL: http://www.wdc.com/
footprint P40 (DIP; 40 Leads; Row Spacing 15.24 mm; Pitch 2.54 mm)
3D model P40 (DIP; 40 Leads; Row Spacing 15.24 mm; Pitch 2.54 mm)
pins: 1 NC, 2 TXD-B (out), 3 RXD-B (in), 4 ~{RE} (in), 5 ~{CS1} (in), 6 C/~{D} (in), 7 D0 (io), 8 D1 (io), 9 D2 (io), 10 GND (power), 11 D3 (io), 12 D4 (io), 13 D5 (io), 14 D6 (io), 15 D7 (io), 16 ~{CS2} (in), 17 ~{WE} (in), 18 ~{CS3} (in), 19 RXD-A (in), 20 TXD-A (out), 21 TXRDY-A (out), 22 RXRDY-A (out), 23 TXE-A (out), 24 BRKDET-A (out), 25 ~{RTS-A} (out), 26 ~{CTS-A} (in), 27 SELCK-A (in), 28 XC/BCO-A (io), 29 MR (in), 30 VCC (power), 31 XTAL1 (in), 32 XTAL2 (out), 33 XC/BCO-B (io), 34 SELCK-B (in), 35 ~{CTS-B} (in), 36 ~{RTS-B} (out), 37 BRKDET-B (out), 38 TXE-B (out), 39 RXRDY-B (out), 40 TXRDY-B (out)

## WD8256-00AL
designator U?
Programmable Multifunction UART; PackageDocument: 1984; Published: 8-Jun-2000; LatestRevisionDate: 4-Mar-2005; LatestRevisionNote: Stylized 3D Model Added.; DatasheetDocument: 1984; PackageReference: AL40; Publisher: Altium Limited; ComponentLink1Description: Manufacturer Link; ComponentLink1URL: http://www.wdc.com/
footprint AL40 (DIP; 40 Leads; Row Spacing 15.24 mm; Pitch 2.54 mm)
3D model A40 (DIP; 40 Leads; Row Spacing 15.24 mm; Pitch 2.54 mm)
pins: 1 AD0 (io), 2 AD1 (io), 3 AD2 (io), 4 AD3 (io), 5 AD4 (io), 6 DB5 (io), 7 DB6 (io), 8 DB7 (io), 9 ALE (in), 10 ~{RD} (in), 11 ~{WR} (in), 12 RESET (in), 13 ~{CS} (in), 14 ~{INTA} (in), 15 INT (out), 16 EXTINT (in), 17 CLK (in), 18 ~{RXC} (io), 19 RXD (in), 20 GND (power), 21 ~{CTS} (in), 22 ~{TXC} (io), 23 TXD (out), 24 P27 (io), 25 P26 (io), 26 P25 (io), 27 P24 (io), 28 P23 (io), 29 P22 (io), 30 P21 (io), 31 P20 (io), 32 P17 (io), 33 P16 (io), 34 P15 (io), 35 P14 (io), 36 P13 (io), 37 P12 (io), 38 P11 (io), 39 P10 (io), 40 VCC (power)

## WD8256-00PL
designator U?
Programmable Multifunction UART; PackageDocument: 1984; Published: 8-Jun-2000; LatestRevisionDate: 4-Mar-2005; LatestRevisionNote: Stylized 3D Model Added.; DatasheetDocument: 1984; PackageReference: PL40; Publisher: Altium Limited; ComponentLink1Description: Manufacturer Link; ComponentLink1URL: http://www.wdc.com/
footprint PL40 (DIP; 40 Leads; Row Spacing 15.24 mm; Pitch 2.54 mm)
3D model P40 (DIP; 40 Leads; Row Spacing 15.24 mm; Pitch 2.54 mm)
pins: 1 AD0 (io), 2 AD1 (io), 3 AD2 (io), 4 AD3 (io), 5 AD4 (io), 6 DB5 (io), 7 DB6 (io), 8 DB7 (io), 9 ALE (in), 10 ~{RD} (in), 11 ~{WR} (in), 12 RESET (in), 13 ~{CS} (in), 14 ~{INTA} (in), 15 INT (out), 16 EXTINT (in), 17 CLK (in), 18 ~{RXC} (io), 19 RXD (in), 20 GND (power), 21 ~{CTS} (in), 22 ~{TXC} (io), 23 TXD (out), 24 P27 (io), 25 P26 (io), 26 P25 (io), 27 P24 (io), 28 P23 (io), 29 P22 (io), 30 P21 (io), 31 P20 (io), 32 P17 (io), 33 P16 (io), 34 P15 (io), 35 P14 (io), 36 P13 (io), 37 P12 (io), 38 P11 (io), 39 P10 (io), 40 VCC (power)

## WD8256-02AL
designator U?
Programmable Multifunction UART; PackageDocument: 1984; Published: 8-Jun-2000; LatestRevisionDate: 4-Mar-2005; LatestRevisionNote: Stylized 3D Model Added.; DatasheetDocument: 1984; PackageReference: AL40; Publisher: Altium Limited; ComponentLink1Description: Manufacturer Link; ComponentLink1URL: http://www.wdc.com/
footprint AL40 (DIP; 40 Leads; Row Spacing 15.24 mm; Pitch 2.54 mm)
3D model A40 (DIP; 40 Leads; Row Spacing 15.24 mm; Pitch 2.54 mm)
pins: 1 AD0 (io), 2 AD1 (io), 3 AD2 (io), 4 AD3 (io), 5 AD4 (io), 6 DB5 (io), 7 DB6 (io), 8 DB7 (io), 9 ALE (in), 10 ~{RD} (in), 11 ~{WR} (in), 12 RESET (in), 13 ~{CS} (in), 14 ~{INTA} (in), 15 INT (out), 16 EXTINT (in), 17 CLK (in), 18 ~{RXC} (io), 19 RXD (in), 20 GND (power), 21 ~{CTS} (in), 22 ~{TXC} (io), 23 TXD (out), 24 P27 (io), 25 P26 (io), 26 P25 (io), 27 P24 (io), 28 P23 (io), 29 P22 (io), 30 P21 (io), 31 P20 (io), 32 P17 (io), 33 P16 (io), 34 P15 (io), 35 P14 (io), 36 P13 (io), 37 P12 (io), 38 P11 (io), 39 P10 (io), 40 VCC (power)

## WD8256-02PL
designator U?
Programmable Multifunction UART; PackageDocument: 1984; Published: 8-Jun-2000; LatestRevisionDate: 4-Mar-2005; LatestRevisionNote: Stylized 3D Model Added.; DatasheetDocument: 1984; PackageReference: PL40; Publisher: Altium Limited; ComponentLink1Description: Manufacturer Link; ComponentLink1URL: http://www.wdc.com/
footprint PL40 (DIP; 40 Leads; Row Spacing 15.24 mm; Pitch 2.54 mm)
3D model P40 (DIP; 40 Leads; Row Spacing 15.24 mm; Pitch 2.54 mm)
pins: 1 AD0 (io), 2 AD1 (io), 3 AD2 (io), 4 AD3 (io), 5 AD4 (io), 6 DB5 (io), 7 DB6 (io), 8 DB7 (io), 9 ALE (in), 10 ~{RD} (in), 11 ~{WR} (in), 12 RESET (in), 13 ~{CS} (in), 14 ~{INTA} (in), 15 INT (out), 16 EXTINT (in), 17 CLK (in), 18 ~{RXC} (io), 19 RXD (in), 20 GND (power), 21 ~{CTS} (in), 22 ~{TXC} (io), 23 TXD (out), 24 P27 (io), 25 P26 (io), 26 P25 (io), 27 P24 (io), 28 P23 (io), 29 P22 (io), 30 P21 (io), 31 P20 (io), 32 P17 (io), 33 P16 (io), 34 P15 (io), 35 P14 (io), 36 P13 (io), 37 P12 (io), 38 P11 (io), 39 P10 (io), 40 VCC (power)